# EAGLE library part ICM20948 (library Arduino-MITCH_Breakouts)
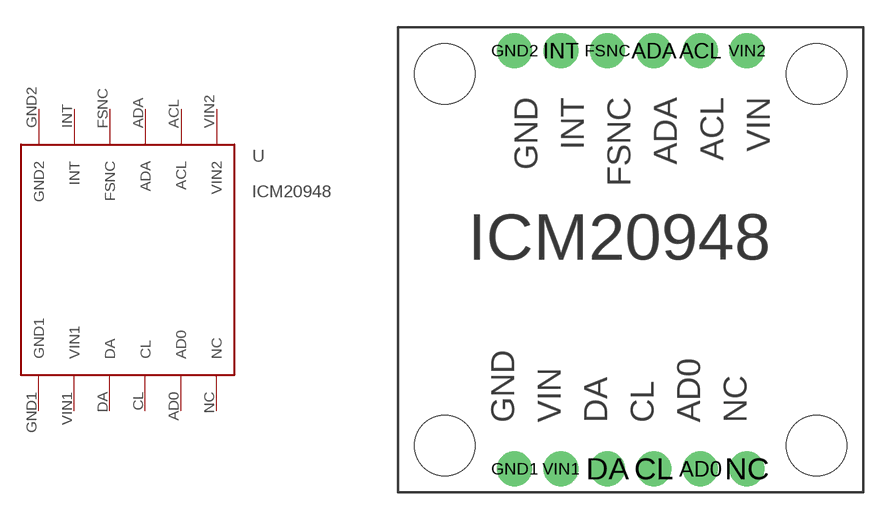
[diagram p2: symbol with the pads of ICM20948; footprint ICM20948]

Designator prefix -

## ICM20948  [ICM20948]
ACL  ACL
AD0  AD0
ADA  ADA
CL  CL
DA  DA
FSNC  FSNC
GND1  GND1
GND2  GND2
INT  INT
NC  NC
VIN1  VIN1
VIN2  VIN2

## Footprint ICM20948 (pad centres in mm)
drill 1.016 pad 1.905: ACL 16.51,24.13; AD0 16.51,1.27; ADA 13.97,24.13; CL 13.97,1.27; DA 11.43,1.27; FSNC 11.43,24.13; GND1 6.35,1.27; GND2 6.35,24.13; INT 8.89,24.13; NC 19.05,1.27; VIN1 8.89,1.27; VIN2 19.05,24.13
hole 3.302 at 2.54,22.86
hole 3.302 at 22.86,22.86
hole 3.302 at 2.54,2.54
hole 3.302 at 22.86,2.54